# EAGLE library part MCP1603XX-XXXX/M (library MCP1603)
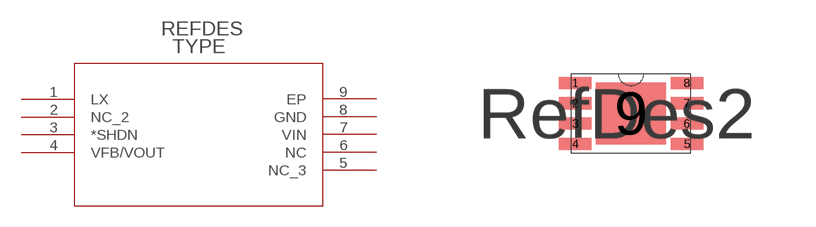
[diagram p0: symbol with the pads of DFN8_2X3MC; footprint DFN8_2X3MC]

Designator prefix -

## MCP1603XX-XXXX/M  [DFN8_2X3MC]
1  LX  pas
2  NC_2  pas
3  *SHDN  pas
4  VFB/VOUT  pas
5  NC_3  pas
6  NC  pas
7  VIN  pas
8  GND  pas
9  EP  pas

## Footprint DFN8_2X3MC (pad centres in mm)
smd 0.813 x 0.305: 1 -1.397,0.762; 2 -1.397,0.254; 3 -1.397,-0.254; 4 -1.397,-0.762; 5 1.397,-0.762; 6 1.397,-0.254; 7 1.397,0.254; 8 1.397,0.762
smd 1.753 x 1.549: 9 0,0